# Altium schematic symbol library SEN0189.SchLib: 1 symbol
Pins are listed as number, name and electrical type; pins without a type are passive.

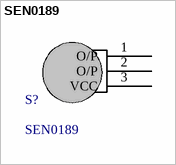
[diagram p0: symbol SEN0189]

## SEN0189
designator S?
pins: 1 O/P, 2 O/P, 3 VCC